# EAGLE library part 428542320811 (library EAGLE-TACT_SWITCHES-rev16e)
7x7 mm washable SMD arrow type WS-ROSV <http://katalog.we-online.de/media/images/v2/Family_WS-ROSV_SMD_Rotary_Switch_428542320810.jpg> Details see: http://katalog.we-online.de/en/em/ROSV_7X7_WASHABLE_SMD_ARROW_TYPE 2015 (C) Würth Elektronik
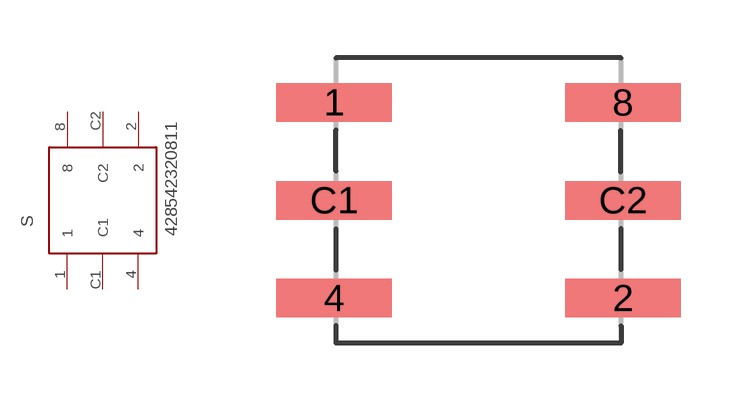
[diagram p100: symbol with the pads of 428542320811; footprint 428542320811]

Designator prefix S

## 428542320811  [428542320811]
1  1  pas
2  2  pas
4  4  pas
8  8  pas
C1  C1  pas
C2  C2  pas

## Footprint 428542320811 (pad centres in mm)
WS-RAS, 7x7 mm washable SMT Rotary Switch, 6 pins, 10 positions, round Arrow type, orange actuator, complement code
smd 3 x 1: 1 -3.75,2.54; 2 3.75,-2.54; 4 -3.75,-2.54; 8 3.75,2.54; C1 -3.75,0; C2 3.75,0